# Altium schematic symbol library Conn,NanoSim,SMD.Schlib: 1 symbol
Pins are listed as number, name and electrical type; pins without a type are passive.

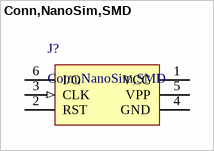
[diagram p0: symbol Conn,NanoSim,SMD]

## Conn,NanoSim,SMD
designator J?
6 Position Card Connector NANO SIM Surface Mount, Right Angle Gold
pins: 1 VCC (power), 2 RST, 3 CLK (in), 4 GND (power), 5 VPP (power), 6 I/O